# EAGLE library part CAP1208 (library pighiXXX)
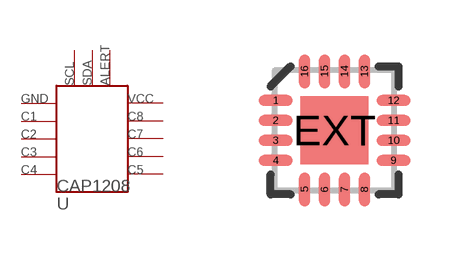
[diagram p6: symbol with the pads of QFN_16; footprint QFN_16]

Designator prefix U

## CAP1208  [QFN_16]
1  ALERT
2  SDA
3  SCL
4  VCC
7  GND
8  GND
9  C8
10  C7
11  C6
12  C5
13  C4
14  C3
15  C2
16  C1
EXT  GND

## Footprint QFN_16 (pad centres in mm)
smd 0.85 x 0.28: 1 -1.475,0.75; 2 -1.475,0.25; 3 -1.475,-0.25; 4 -1.475,-0.75; 9 1.475,-0.75; 10 1.475,-0.25; 11 1.475,0.25; 12 1.475,0.75
smd 0.28 x 0.85: 5 -0.75,-1.475; 6 -0.25,-1.475; 7 0.25,-1.475; 8 0.75,-1.475; 13 0.75,1.475; 14 0.25,1.475; 15 -0.25,1.475; 16 -0.75,1.475
smd 1.7 x 1.7: EXT 0,0